# Altium schematic symbol library vlc_ctrl.SchLib: 9 symbols
Pins are listed as number, name and electrical type; pins without a type are passive.

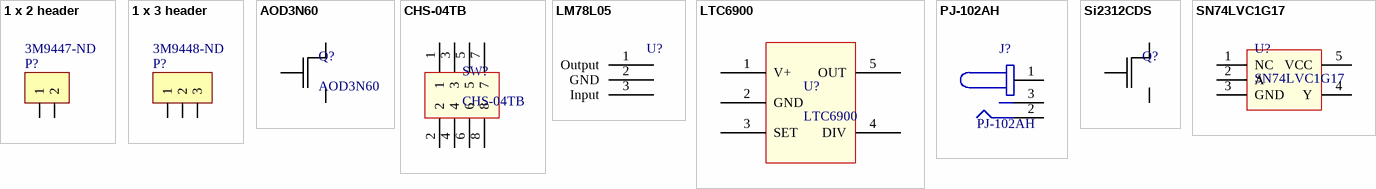
[diagram p0: symbols 1 x 2 header to SN74LVC1G17]

## 1 x 2 header
designator P?  Supplier Part Number 1: 3M9447-ND  (hidden comment: 1 x 2 header)
100 mils standard header; Supplier 1: Digi-Key
footprint 1x2 header (1x2 header, 100 mils)
pins: 1, 2

## 1 x 3 header
designator P?  Supplier Part Number 1: 3M9448-ND  (hidden comment: 1 x 3 header)
100 mils standard header; Supplier 1: Digi-Key
footprint 1x3 header (1x3 header, 100 mils)
pins: 1, 2, 3

## AOD3N60
designator Q?
600V,2.5A N-Channel MOSFET; Supplier 1: Digi-Key; Supplier Part Number 1: 785-1181-1-ND
footprint TO252 (TO252-3)
pins: 1 G, 3 S, 4 D

## CHS-04TB
designator SW?
SLIDE SWITCHES
footprint CHS04TB (4 POS DIP SWITCH)
pins: 1, 2, 3, 4, 5, 6, 7, 8

## LM78L05
designator U?  (value not drawn)
LM78LXX Series 3-Terminal Positive Regulators; Supplier 1: Digi-Key; Supplier Part Number 1: LM78L05ACZNS/NOPB-ND
footprint TO92
pins: 1 Output, 2 GND, 3 Input

## LTC6900
designator U?
Low Power, 1kHz to 20MHz   Resistor Set SOT-23 Oscillator; Supplier 1: Digi-Key; Supplier Part Number 1: LTC6900CS5#TRMCT-ND
footprint TSOT23
pins: 1 V+, 2 GND, 3 SET, 4 DIV, 5 OUT

## PJ-102AH
designator J?
CONN PWR JACK 2.1X5.5MM HIGH CUR; Supplier 1: Digi-Key; Supplier Part Number 1: CP-102AH-ND
footprint PJ-102AH (Power Jack)
pins: 1, 2, 3

## Si2312CDS
designator Q?  (value not drawn)
N-Channel 20 V (D-S) MOSFET; Supplier 1: Digi-Key; Supplier Part Number 1: SI2312CDS-T1-GE3DKR-ND
footprint SOT95P250-3N (SOT23, 3-Leads, Body 2.9x1.3mm, Pitch 0.95mm, Lead Span 2.3mm, IPC Medium Density)
pins: 1 G, 2 S, 3 D

## SN74LVC1G17
designator U?
SINGLE SCHMITT-TRIGGER BUFFER; Supplier 1: Digi-Key; Supplier Part Number 1: 296-11933-1-ND
footprint SOT23-5 (SOT23, 5-Leads, Body 2.9x1.6mm, Pitch 0.95mm, Lead Span 2.8mm, IPC High Density)
pins: 1 NC, 2 A, 3 GND, 4 Y, 5 VCC